# Altium footprint library 1N4001RLG.PcbLib: 2 footprints
Each footprint in its own frame and in the unit in brackets; x right, y up, seen from the top. Pads: shape width x height; smd on the part's side, far side on the other; paste and mask are expansions set on the pad; w line width, h text height; cw(c..) or ccw(c..) is an arc to the next point about the centre after c.
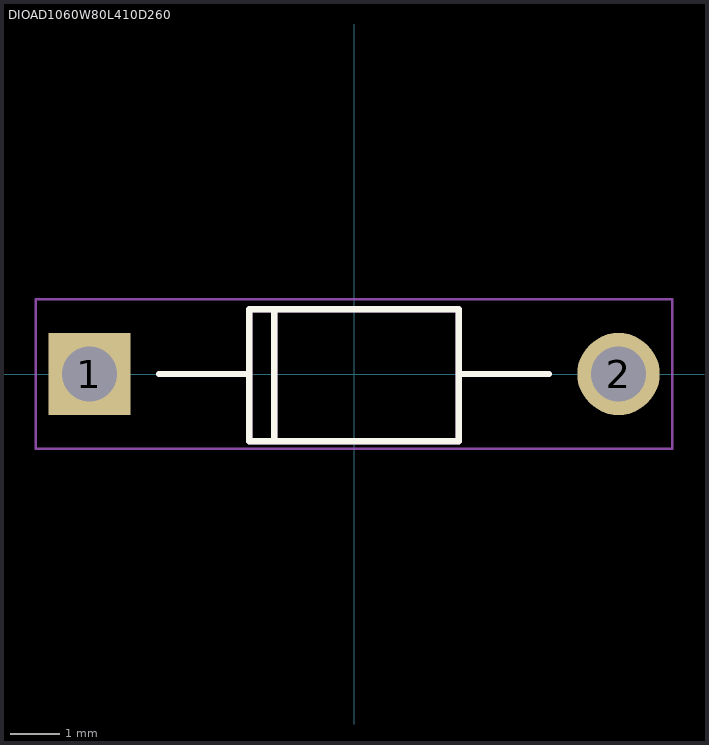
[diagram p0: the footprints below, top view; thin cyan lines are the x and y axes]

## DIOAD1060W80L410D260 [mm]
pads (2):
  rect 1.65x1.65 hole 1.1: 1(-5.3,0)
  round 1.65 hole 1.1: 2(5.3,0)
Top Overlay:
  lines w0.127: -3.9,0 -2.1,0 ; 3.9,0 2.1,0 ; -2.1,0 -2.1,1.3 -1.6,1.3 ; -2.1,0 -2.1,-1.35 -1.6,-1.35 ; -1.6,-1.35 2.1,-1.35 2.1,0 ; -1.6,-1.35 -1.6,1.3 ; -1.6,1.3 2.1,1.3 2.1,0
Mechanical 13:
  lines w0.127: -3.9,0 -2.1,0 ; -1.6,-1.3 -1.6,1.3 ; 3.9,0 2.1,0 ; -2.1,0 -2.1,1.3 -1.6,1.3 ; -2.1,0 -2.1,-1.35 2.1,-1.35 2.1,0 ; -1.6,1.3 2.1,1.3 2.1,0
Mechanical 15:
  lines w0.05: -6.375,-1.5 6.375,-1.5 6.375,1.5 -6.375,1.5 -6.375,-1.5
3D body "step_temp.STEP": height 27.72, standoff -27.72, extent -1.175,-1.175 1.175,1.175

## PCBComponent_1 [mm]